# Altium footprint library Vertical, Dual-Row, Flange Mount with Tab.PcbLib: 18 footprints (part 1 of 2)
Each footprint in its own frame and in the unit in brackets; x right, y up, seen from the top. Pads: shape width x height; smd on the part's side, far side on the other; paste and mask are expansions set on the pad; w line width, h text height; cw(c..) or ccw(c..) is an arc to the next point about the centre after c.
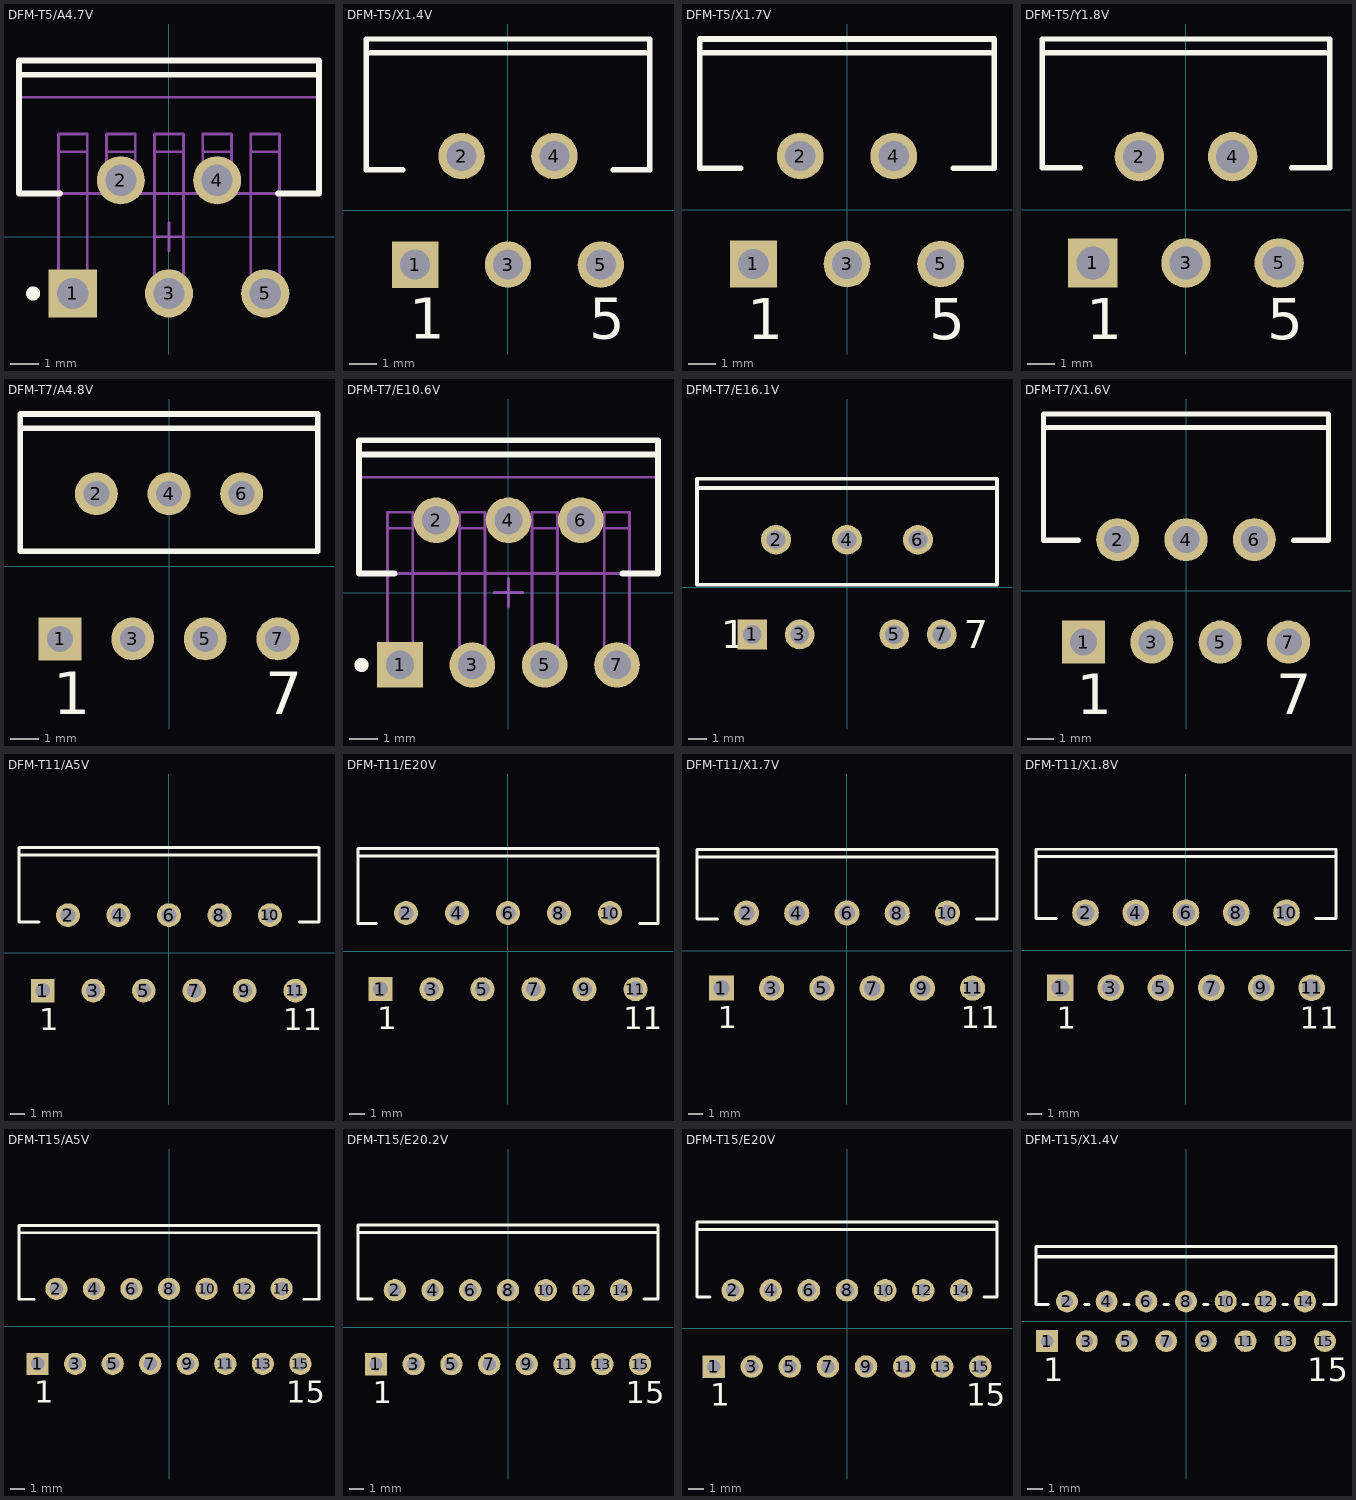
[diagram p0: the footprints below, top view; thin cyan lines are the x and y axes]

## DFM-T5/A4.7V [mm] "TO, Thru-Hole, Vertical, Heatsink Mounted; 5 Bent Staggered Leads; Pitch 1.7 mm"
height 21.1
pads (5):
  rect 1.7x1.7 hole 1.1: 1(-3.4,-2)
  round 1.7 hole 1.1: 2(-1.7,2) 3(0,-2) 4(1.7,2) 5(3.4,-2)
Top Overlay:
  circle w0.25: c-4.8,-2 r0.125
  lines w0.2: -5.3,5.73 5.3,5.73 ; -3.854,1.53 -5.3,1.53 -5.3,6.23 5.3,6.23 5.3,1.53 3.854,1.53
Mechanical 13:
  lines w0.1: -5.3,4.93 5.3,4.93 ; -3.91,-1.685 -3.91,-2.315 -2.89,-2.315 -2.89,-1.685 ; -3.91,-1.685 -2.89,-1.685 ; -3.91,-1.685 -3.91,3.005 ; -3.91,3.005 -2.89,3.005 ; -3.91,3.005 -3.91,3.635 -2.89,3.635 -2.89,3.005 ; -2.89,-1.685 -2.89,3.005 ; -2.21,2.315 -2.21,1.685 -1.19,1.685 -1.19,2.315 ; -2.21,2.315 -1.19,2.315 ; -2.21,2.315 -2.21,3.005 ; -2.21,3.005 -1.19,3.005 ; -2.21,3.005 -2.21,3.635 -1.19,3.635 -1.19,3.005 ; -1.19,2.315 -1.19,3.005 ; -0.51,-1.685 -0.51,3.005 ; -0.51,-1.685 0.51,-1.685 ; -0.51,-1.685 -0.51,-2.315 0.51,-2.315 0.51,-1.685 ; -0.51,3.005 -0.51,3.635 0.51,3.635 0.51,3.005 ; -0.51,3.005 0.51,3.005 ; 0.51,-1.685 0.51,3.005 ; 1.19,2.315 1.19,1.685 2.21,1.685 2.21,2.315 ; 1.19,2.315 2.21,2.315 ; 1.19,2.315 1.19,3.005 ; 1.19,3.005 2.21,3.005 ; 1.19,3.005 1.19,3.635 2.21,3.635 2.21,3.005 ; 2.21,2.315 2.21,3.005 ; 2.89,-1.685 2.89,3.005 ; 2.89,-1.685 2.89,-2.315 3.91,-2.315 3.91,-1.685 ; 2.89,-1.685 3.91,-1.685 ; 2.89,3.005 3.91,3.005 ; 2.89,3.005 2.89,3.635 3.91,3.635 3.91,3.005 ; 3.91,-1.685 3.91,3.005 ; -5.3,1.53 -5.3,6.23 5.3,6.23 5.3,1.53 -5.3,1.53
Mechanical 15:
  lines w0.1: -0.5,0 0.5,0 ; 0,-0.5 0,0.5
3D body: height 5.6, standoff 1.95, extent -3.909,3.006 -2.891,3.634
3D body: height 1.72, standoff 0.63, extent 2.891,-1.684 3.909,1.529
3D body: height 1.72, standoff 0.63, extent -0.509,-1.684 0.509,1.529
3D body: height 1.72, standoff 0.63, extent -3.909,-1.684 -2.891,1.529
3D body: height 0.93, standoff 0, extent 2.891,-2.314 3.909,-1.686
3D body: height 0.93, standoff 0, extent -0.509,-2.314 0.509,-1.686
3D body: height 0.93, standoff 0, extent -3.909,-2.314 -2.891,-1.686
3D body: height 2.26, standoff 1.42, extent -0.509,1.531 0.509,3.004
3D body: height 2.26, standoff 1.42, extent -3.909,1.531 -2.891,3.004
3D body: height 2.26, standoff 1.42, extent 2.891,1.531 3.909,3.004
3D body: height 2.26, standoff 0.63, extent 1.191,2.316 2.209,3.004
3D body: height 2.26, standoff 0.63, extent -2.209,2.316 -1.191,3.004
3D body: height 0.93, standoff 0, extent -2.209,1.686 -1.191,2.314
3D body: height 0.93, standoff 0, extent 1.191,1.686 2.209,2.314
3D body: height 5.6, standoff 1.95, extent 2.891,3.006 3.909,3.634
3D body: height 5.6, standoff 1.95, extent 1.191,3.006 2.209,3.634
3D body: height 5.6, standoff 1.95, extent -0.509,3.006 0.509,3.634
3D body: height 5.6, standoff 1.95, extent -2.209,3.006 -1.191,3.634
3D body: height 14.5, standoff 5.6, extent -5.35,1.48 5.35,6.28
3D body: height 21.1, standoff 14.5, extent -5.299,4.931 5.299,6.229

## DFM-T5/X1.4V [mm] "TO, Thru-Hole, Vertical, Heatsink Mounted; 5 Bent Staggered Leads; Pitch 1.7 mm"
height 21.2
pads (5):
  rect 1.7x1.7 hole 1.1: 1(-3.4,-1.99)
  round 1.7 hole 1.1: 2(-1.7,1.99) 3(0,-1.99) 4(1.7,1.99) 5(3.4,-1.99)
Top Overlay:
  lines w0.2: -5.2,5.78 5.2,5.78 ; -3.854,1.48 -5.2,1.48 -5.2,6.28 5.2,6.28 5.2,1.48 3.854,1.48
  text "1" at -3.62,-4.715 h1.5
  text "5" at 2.98,-4.715 h1.5

## DFM-T5/X1.7V [mm] "TO, Thru-Hole, Vertical, Heatsink Mounted; 5 Bent Staggered Leads; Pitch 1.7 mm"
height 18.8
pads (5):
  rect 1.7x1.7 hole 1.1: 1(-3.4,-1.96)
  round 1.7 hole 1.1: 2(-1.7,1.96) 3(0,-1.96) 4(1.7,1.96) 5(3.4,-1.96)
Top Overlay:
  lines w0.2: -5.35,5.71 5.35,5.71 ; -3.854,1.51 -5.35,1.51 -5.35,6.21 5.35,6.21 5.35,1.51 3.854,1.51
  text "5" at 2.98,-4.685 h1.5
  text "1" at -3.62,-4.685 h1.5

## DFM-T5/Y1.8V [mm] "TO, Thru-Hole, Vertical, Heatsink Mounted; 5 Bent Staggered Leads; Pitch 1.7 mm"
height 21.3
pads (5):
  rect 1.8x1.8 hole 1.2: 1(-3.4,-1.94)
  round 1.8 hole 1.2: 2(-1.7,1.94) 3(0,-1.94) 4(1.7,1.94) 5(3.4,-1.94)
Top Overlay:
  lines w0.2: -5.25,5.73 5.25,5.73 ; -3.854,1.53 -5.25,1.53 -5.25,6.23 5.25,6.23 5.25,1.53 3.854,1.53
  text "1" at -3.64,-4.715 h1.5
  text "5" at 2.96,-4.715 h1.5

## DFM-T7/A4.8V [mm] "TO, Thru-Hole, Vertical, Heatsink Mounted; 7 Bent Staggered Leads; Pitch 1.27 mm"
height 20.2
pads (7):
  rect 1.5x1.5 hole 0.9: 1(-3.81,-2.54)
  round 1.5 hole 0.9: 2(-2.54,2.54) 3(-1.27,-2.54) 4(0,2.54) 5(1.27,-2.54) 6(2.54,2.54) 7(3.81,-2.54)
Top Overlay:
  lines w0.2: -5.2,4.83 5.2,4.83 ; -5.2,0.53 5.2,0.53 5.2,5.33 -5.2,5.33 -5.2,0.53
  text "7" at 3.37,-5.165 h1.5
  text "1" at -4.05,-5.165 h1.5

## DFM-T7/E10.6V [mm] "TO, Thru-Hole, Vertical, Heatsink Mounted; 7 Bent Staggered Leads; Pitch 1.27 mm"
height 21.1
pads (7):
  rect 1.6x1.6 hole 1: 1(-3.81,-2.54)
  round 1.6 hole 1: 2(-2.54,2.54) 3(-1.27,-2.54) 4(0,2.54) 5(1.27,-2.54) 6(2.54,2.54) 7(3.81,-2.54)
Top Overlay:
  circle w0.25: c-5.16,-2.54 r0.125
  lines w0.2: -5.25,4.85 5.25,4.85 ; -4,0.67 -5.25,0.67 -5.25,5.35 5.25,5.35 5.25,0.67 4,0.67
Mechanical 13:
  lines w0.1: -5.25,4.05 5.25,4.05 ; -4.255,-2.26 -4.255,2.26 ; -4.255,-2.26 -3.365,-2.26 ; -4.255,-2.26 -4.255,-2.82 -3.365,-2.82 -3.365,-2.26 ; -4.255,2.26 -4.255,2.82 -3.365,2.82 -3.365,2.26 ; -4.255,2.26 -3.365,2.26 ; -3.365,-2.26 -3.365,2.26 ; -1.715,-2.26 -1.715,2.26 ; -1.715,-2.26 -0.825,-2.26 ; -1.715,-2.26 -1.715,-2.82 -0.825,-2.82 -0.825,-2.26 ; -1.715,2.26 -1.715,2.82 -0.825,2.82 -0.825,2.26 ; -1.715,2.26 -0.825,2.26 ; -0.825,-2.26 -0.825,2.26 ; 0.825,-2.26 0.825,2.26 ; 0.825,-2.26 1.715,-2.26 ; 0.825,-2.26 0.825,-2.82 1.715,-2.82 1.715,-2.26 ; 0.825,2.26 0.825,2.82 1.715,2.82 1.715,2.26 ; 0.825,2.26 1.715,2.26 ; 1.715,-2.26 1.715,2.26 ; 3.365,-2.26 4.255,-2.26 ; 3.365,-2.26 3.365,-2.82 4.255,-2.82 4.255,-2.26 ; 3.365,-2.26 3.365,2.26 ; 3.365,2.26 3.365,2.82 4.255,2.82 4.255,2.26 ; 3.365,2.26 4.255,2.26 ; 4.255,-2.26 4.255,2.26 ; -5.25,0.67 -5.25,5.35 5.25,5.35 5.25,0.67 -5.25,0.67 ; -2.985,2.26 -2.985,2.82 -2.095,2.82 -2.095,2.26 -2.985,2.26 ; -0.445,2.26 -0.445,2.82 0.445,2.82 0.445,2.26 -0.445,2.26 ; 2.095,2.26 2.095,2.82 2.985,2.82 2.985,2.26 2.095,2.26
Mechanical 15:
  lines w0.1: -0.5,0 0.5,0 ; 0,-0.5 0,0.5
3D body: height 14.35, standoff 5.4, extent -5.3,0.62 5.3,5.4
3D body: height 0.7, standoff 0, extent 3.366,-2.819 4.254,-2.261
3D body: height 0.7, standoff 0, extent -1.714,-2.819 -0.826,-2.261
3D body: height 0.7, standoff 0, extent -4.254,-2.819 -3.366,-2.261
3D body: height 0.7, standoff 0, extent 0.826,-2.819 1.714,-2.261
3D body: height 2.45, standoff 0.45, extent -1.714,-2.259 -0.826,0.669
3D body: height 2.45, standoff 0.45, extent -4.254,-2.259 -3.366,0.669
3D body: height 2.45, standoff 0.45, extent 0.826,-2.259 1.714,0.669
3D body: height 2.45, standoff 0.45, extent 3.366,-2.259 4.254,0.669
3D body: height 3.69, standoff 2.15, extent 3.366,0.671 4.254,2.259
3D body: height 3.69, standoff 2.15, extent 0.826,0.671 1.714,2.259
3D body: height 3.69, standoff 2.15, extent -1.714,0.671 -0.826,2.259
3D body: height 3.69, standoff 2.15, extent -4.254,0.671 -3.366,2.259
3D body: height 5.4, standoff 3.3, extent -1.714,2.261 -0.826,2.819
3D body: height 5.4, standoff 0, extent -2.984,2.261 -2.096,2.819
3D body: height 5.4, standoff 3.3, extent -4.254,2.261 -3.366,2.819
3D body: height 5.4, standoff 0, extent -0.444,2.261 0.444,2.819
3D body: height 5.4, standoff 0, extent 2.096,2.261 2.984,2.819
3D body: height 5.4, standoff 3.3, extent 3.366,2.261 4.254,2.819
3D body: height 5.4, standoff 3.3, extent 0.826,2.261 1.714,2.819
3D body: height 21.1, standoff 14.35, extent -5.249,4.051 5.249,5.349

## DFM-T7/E16.1V [mm] "TO, Thru-Hole, Vertical, Heatsink Mounted; 7 Bent Staggered Leads; Pitch 1.27 mm"
height 25.3
pads (7):
  rect 1.6x1.6 hole 1: 1(-5.08,-2.54)
  round 1.6 hole 1: 2(-3.81,2.54) 3(-2.54,-2.54) 4(0,2.54) 5(2.54,-2.54) 6(3.81,2.54) 7(5.08,-2.54)
Top Overlay:
  lines w0.2: -8.05,5.32 8.05,5.32 ; -8.05,0.12 8.05,0.12 8.05,5.82 -8.05,5.82 -8.05,0.12
  text "7" at 6.255,-3.29 h1.5
  text "1" at -6.755,-3.29 h1.5

## DFM-T7/X1.6V [mm] "TO, Thru-Hole, Vertical, Heatsink Mounted; 7 Bent Staggered Leads; Pitch 1.27 mm"
height 22.2
pads (7):
  rect 1.6x1.6 hole 1: 1(-3.81,-1.905)
  round 1.6 hole 1: 2(-2.54,1.905) 3(-1.27,-1.905) 4(0,1.905) 5(1.27,-1.905) 6(2.54,1.905) 7(3.81,-1.905)
Top Overlay:
  lines w0.2: -5.3,6.075 5.3,6.075 ; -4,1.875 -5.3,1.875 -5.3,6.575 5.3,6.575 5.3,1.875 4,1.875
  text "1" at -4.06,-4.58 h1.5
  text "7" at 3.36,-4.58 h1.5

## DFM-T11/A5V [mm] "TO, Thru-Hole, Vertical, Heatsink Mounted; 11 Bent Staggered Leads; Pitch 1.7 mm"
height 21
pads (11):
  rect 1.6x1.6 hole 1: 1(-8.5,-2.54)
  round 1.6 hole 1: 2(-6.8,2.54) 3(-5.1,-2.54) 4(-3.4,2.54) 5(-1.7,-2.54) 6(0,2.54) 7(1.7,-2.54) 8(3.4,2.54) 9(5.1,-2.54) 10(6.8,2.54) 11(8.5,-2.54)
Top Overlay:
  lines w0.2: -10.1,6.59 10.1,6.59 ; -8.754,2.09 -10.1,2.09 -10.1,7.09 10.1,7.09 10.1,2.09 8.774,2.09
  text "1" at -8.73,-5.215 h1.5
  text "11" at 7.69,-5.215 h1.5

## DFM-T11/E20V [mm] "TO, Thru-Hole, Vertical, Heatsink Mounted; 11 Bent Staggered Leads; Pitch 1.7 mm"
height 21
pads (11):
  rect 1.6x1.6 hole 1: 1(-8.5,-2.54)
  round 1.6 hole 1: 2(-6.8,2.54) 3(-5.1,-2.54) 4(-3.4,2.54) 5(-1.7,-2.54) 6(0,2.54) 7(1.7,-2.54) 8(3.4,2.54) 9(5.1,-2.54) 10(6.8,2.54) 11(8.5,-2.54)
Top Overlay:
  lines w0.2: -10,6.33 9.9,6.33 ; -8.754,1.83 -10,1.83 -10,6.83 10,6.83 10,1.83 8.774,1.83
  text "11" at 7.67,-5.215 h1.5
  text "1" at -8.73,-5.215 h1.5

## DFM-T11/X1.7V [mm] "TO, Thru-Hole, Vertical, Heatsink Mounted; 11 Bent Staggered Leads; Pitch 1.7 mm"
height 21
pads (11):
  rect 1.7x1.7 hole 1.1: 1(-8.5,-2.54)
  round 1.7 hole 1.1: 2(-6.8,2.54) 3(-5.1,-2.54) 4(-3.4,2.54) 5(-1.7,-2.54) 6(0,2.54) 7(1.7,-2.54) 8(3.4,2.54) 9(5.1,-2.54) 10(6.8,2.54) 11(8.5,-2.54)
Top Overlay:
  lines w0.2: -10.15,6.34 10.15,6.34 ; -8.754,2.14 -10.15,2.14 -10.15,6.84 10.15,6.84 10.15,2.14 8.774,2.14
  text "1" at -8.74,-5.265 h1.5
  text "11" at 7.71,-5.265 h1.5

## DFM-T11/X1.8V [mm] "TO, Thru-Hole, Vertical, Heatsink Mounted; 11 Bent Staggered Leads; Pitch 1.7 mm"
height 20.8
pads (11):
  rect 1.8x1.8 hole 1.2: 1(-8.5,-2.54)
  round 1.8 hole 1.2: 2(-6.8,2.54) 3(-5.1,-2.54) 4(-3.4,2.54) 5(-1.7,-2.54) 6(0,2.54) 7(1.7,-2.54) 8(3.4,2.54) 9(5.1,-2.54) 10(6.8,2.54) 11(8.5,-2.54)
Top Overlay:
  lines w0.2: -10.15,6.33 10.15,6.33 ; -8.754,2.13 -10.15,2.13 -10.15,6.83 10.15,6.83 10.15,2.13 8.774,2.13
  text "11" at 7.71,-5.315 h1.5
  text "1" at -8.74,-5.315 h1.5

## DFM-T15/A5V [mm] "TO, Thru-Hole, Vertical, Heatsink Mounted; 15 Bent Staggered Leads; Pitch 1.27 mm"
height 21
pads (15):
  rect 1.5x1.5 hole 0.9: 1(-8.89,-2.54)
  round 1.5 hole 0.9: 2(-7.62,2.54) 3(-6.35,-2.54) 4(-5.08,2.54) 5(-3.81,-2.54) 6(-2.54,2.54) 7(-1.27,-2.54) 8(0,2.54) 9(1.27,-2.54) 10(2.54,2.54) 11(3.81,-2.54) 12(5.08,2.54) 13(6.35,-2.54) 14(7.62,2.54) 15(8.89,-2.54)
Top Overlay:
  lines w0.2: -10.15,6.33 10.05,6.33 ; -9.144,1.83 -10.15,1.83 -10.15,6.83 10.15,6.83 10.15,1.83 9.144,1.83
  text "1" at -9.12,-5.165 h1.5
  text "15" at 7.95,-5.165 h1.5

## DFM-T15/E20.2V [mm] "TO, Thru-Hole, Vertical, Heatsink Mounted; 15 Bent Staggered Leads; Pitch 1.27 mm"
height 21
pads (15):
  rect 1.5x1.5 hole 0.9: 1(-8.89,-2.49)
  round 1.5 hole 0.9: 2(-7.62,2.49) 3(-6.35,-2.49) 4(-5.08,2.49) 5(-3.81,-2.49) 6(-2.54,2.49) 7(-1.27,-2.49) 8(0,2.49) 9(1.27,-2.49) 10(2.54,2.49) 11(3.81,-2.49) 12(5.08,2.49) 13(6.35,-2.49) 14(7.62,2.49) 15(8.89,-2.49)
Top Overlay:
  lines w0.2: -10.1,6.39 10.1,6.39 ; -9.144,1.89 -10.1,1.89 -10.1,6.89 10.1,6.89 10.1,1.89 9.144,1.89
  text "1" at -9.12,-5.115 h1.5
  text "15" at 7.94,-5.115 h1.5

## DFM-T15/E20V [mm] "TO, Thru-Hole, Vertical, Heatsink Mounted; 15 Bent Staggered Leads; Pitch 1.27 mm"
height 21
pads (15):
  rect 1.5x1.5 hole 0.9: 1(-8.89,-2.54)
  round 1.5 hole 0.9: 2(-7.62,2.54) 3(-6.35,-2.54) 4(-5.08,2.54) 5(-3.81,-2.54) 6(-2.54,2.54) 7(-1.27,-2.54) 8(0,2.54) 9(1.27,-2.54) 10(2.54,2.54) 11(3.81,-2.54) 12(5.08,2.54) 13(6.35,-2.54) 14(7.62,2.54) 15(8.89,-2.54)
Top Overlay:
  lines w0.2: -10,6.59 10,6.59 ; -9.144,2.09 -10,2.09 -10,7.09 10,7.09 10,2.09 9.144,2.09
  text "1" at -9.12,-5.165 h1.5
  text "15" at 7.94,-5.165 h1.5

## DFM-T15/X1.4V [mm] "TO, Thru-Hole, Vertical, Heatsink Mounted; 15 Bent Staggered Leads; Pitch 1.27 mm"
height 17.3
pads (15):
  rect 1.4x1.4 hole 0.8: 1(-8.89,-1.27)
  round 1.4 hole 0.8: 2(-7.62,1.27) 3(-6.35,-1.27) 4(-5.08,1.27) 5(-3.81,-1.27) 6(-2.54,1.27) 7(-1.27,-1.27) 8(0,1.27) 9(1.27,-1.27) 10(2.54,1.27) 11(3.81,-1.27) 12(5.08,1.27) 13(6.35,-1.27) 14(7.62,1.27) 15(8.89,-1.27)
Top Overlay:
  lines w0.2: -9.6,4.13 9.6,4.13 ; -8.8,1.08 -9.6,1.08 -9.6,4.78 9.6,4.78 9.6,1.08 8.8,1.08 ; -6.5,1.08 -6.2,1.08 ; -3.96,1.08 -3.66,1.08 ; -1.42,1.08 -1.12,1.08 ; 1.12,1.08 1.42,1.08 ; 3.66,1.08 3.96,1.08 ; 6.2,1.08 6.5,1.08
  text "15" at 7.765,-3.845 h1.5
  text "1" at -9.14,-3.845 h1.5